# Altium footprint library RELE_SERIE_943.PcbLib: 2 footprints
Each footprint in its own frame and in the unit in brackets; x right, y up, seen from the top. Pads: shape width x height; smd on the part's side, far side on the other; paste and mask are expansions set on the pad; w line width, h text height; cw(c..) or ccw(c..) is an arc to the next point about the centre after c.
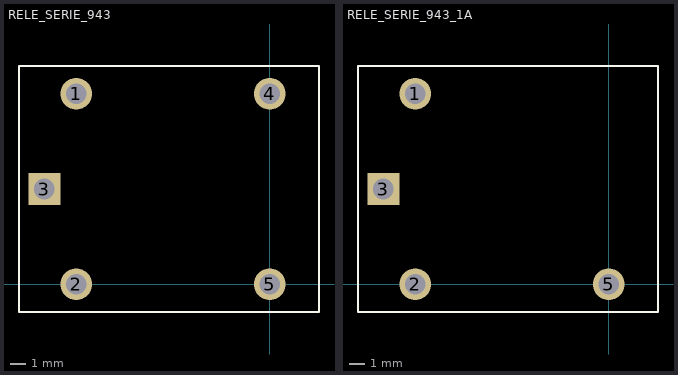
[diagram p0: the footprints below, top view; thin cyan lines are the x and y axes]

## RELE_SERIE_943 [mm]
pads (5):
  round 2 hole 1.3: 1(-12.2,12) 2(-12.2,0) 4(0,12) 5(0,0)
  rect 2x2 hole 1.3: 3(-14.2,6)
Top Overlay:
  lines w0.127: -15.8,-1.75 -15.8,13.75 3.1,13.75 3.1,-1.75 -15.8,-1.75
3D body "User Library-Relay SPDT.step": height 15.8, standoff -3.6, extent -15.875,-1.756 3.125,13.744

## RELE_SERIE_943_1A [mm]
pads (4):
  round 2 hole 1.3: 1(-12.2,12) 2(-12.2,0) 5(0,0)
  rect 2x2 hole 1.3: 3(-14.2,6)
Top Overlay:
  lines w0.127: -15.8,-1.75 -15.8,13.75 3.1,13.75 3.1,-1.75 -15.8,-1.75
3D body "User Library-Relay SPDT.step": height 15.8, standoff -3.6, extent -15.875,-1.756 3.125,13.744